# Altium footprint library OKmePCBLibrary.PcbLib: 197 footprints (part 13 of 13)
Each footprint in its own frame and in the unit in brackets; x right, y up, seen from the top. Pads: shape width x height; smd on the part's side, far side on the other; paste and mask are expansions set on the pad; w line width, h text height; cw(c..) or ccw(c..) is an arc to the next point about the centre after c.
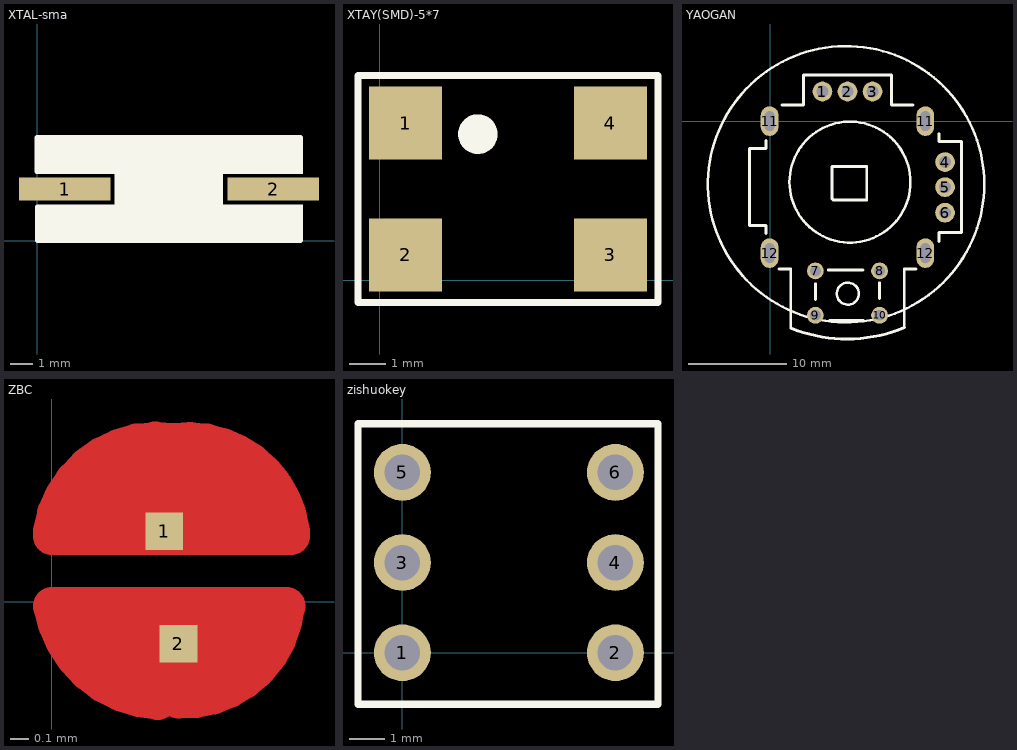
[diagram p12: the footprints below, top view; thin cyan lines are the x and y axes]

## XTAL-sma [mm]
pads (2):
  rect 4x1 smd: 1(1.2,2.25) 2(10.3,2.25)
Top Overlay:
  rectangle: 3.375,1.375 8.1,3.075
  rectangle: 0,0 11.6,1.575
  rectangle: 0,2.9 11.6,4.475
  lines w0.2: -0.025,3 -0.025,4.5 ; 0,1.475 0,0 11.5,0 ; 0,4.5 11.5,4.5

## XTAY(SMD)-5*7 [mm]
pads (4):
  rect 2x2 smd: 1(0.7,4.3) 2(0.7,0.7) 3(6.3,0.7) 4(6.3,4.3)
Top Overlay:
  circle w0.635: c2.676,4 r0.224
  lines w0.2: -0.6,-0.6 -0.6,5.6 7.6,5.6 7.6,-0.6 -0.6,-0.6

## YAOGAN [mm]
pads (14):
  round 2 hole 1.2: 1(5.3,3) 2(7.84,3) 3(10.38,3) 4(17.73,-4.15) 5(17.73,-6.69) 6(17.73,-9.28)
  round 1.7 hole 1.1: 7(4.59,-15.18) 8(11.09,-15.18) 9(4.59,-19.68) 10(11.09,-19.68)
  oval 1.8x3 hole 1 slot 2 at 90 deg: 11(-0.05,0) 11(15.73,0) 12(-0.05,-13.38) 12(15.73,-13.38)
Top Overlay:
  circle w0.254: c7.7,-6.4 r14
  circle w0.254: c7.872,-17.48 r1.118
  circle w0.254: c8.09,-6.18 r6.129
  lines w0.3: -0.41,-11.38 -0.41,-10.58 -2.11,-10.58 -2.11,-2.78 -0.41,-2.78 -0.41,-1.98 ; 0.89,-14.98 2.09,-14.98 2.09,-20.98 ; 1.19,1.62 3.39,1.62 3.39,4.66 12.29,4.66 ; 2.093,-20.972 ccw(c7.79,-6.88) 13.608,-20.923 ; 4.59,-18.08 4.59,-16.48 ; 5.89,-15.08 9.39,-15.08 ; 6.09,-20.18 9.39,-20.18 ; 11.09,-17.98 11.09,-16.38 ; 12.29,4.6 12.29,1.62 14.49,1.62 ; 13.59,-20.88 13.59,-14.98 14.79,-14.98 ; 17.09,-12.18 17.09,-11.28 17.59,-11.28 19.39,-11.28 19.39,-2.08 17.19,-2.08 ; 17.09,-2.08 17.09,-1.28 ; 6.29,-7.88 6.29,-4.58 9.79,-4.58 9.79,-7.98 6.39,-7.98 6.29,-7.88

## ZBC [mm]
pads (2):
  rect 0.2x0.2 smd: 1(0.6,0.375) 2(0.675,-0.225)
Top Layer:
  region: 0,0 1.25,0 1.25,-0.25 0.975,-0.525 0.3,-0.525 0,-0.225
  region: 0,0.375 0.175,0.55 0.175,0.725 0.225,0.725 0.35,0.85 0.925,0.85 1.2,0.575 1.2,0.375
  lines w0.203: 0,-0.025 1.25,-0.025 ; 0,0.35 1.275,0.35 ; 0,0.375 cw(c0.563,0.287) 0.65,0.85 cw(c0.725,0.3) 1.275,0.375 ; 0.004,-0.024 ccw(c0.6,0.075) 0.564,-0.529 ; 0.675,-0.523 ccw(c0.7,0.025) 1.246,-0.025
Top Solder:
  circle w0.203: c0.625,0.2 r0.799
  region: 0.125,0.85 0.225,0.95 0.95,0.95 1.424,0.476 1.424,-0.151 1.075,-0.5 0.2,-0.5 -0.175,-0.125 -0.175,0.5 0.125,0.8
  lines w0.203: -0.175,0.2 1.424,0.2

## zishuokey [mm]
pads (6):
  round 1.6 hole 1: 1(0,0) 2(6,0) 3(0,2.54) 4(6,2.54) 5(0,5.08) 6(6,5.08)
Top Overlay:
  lines w0.203: -1.25,-1.45 -1.25,6.45 7.2,6.45 7.2,-1.45 -1.25,-1.45